# Altium integrated library WE-TI_rev15a.intlib: 113 symbols (part 1 of 2)
Pins are listed as number, name and electrical type; pins without a type are passive.

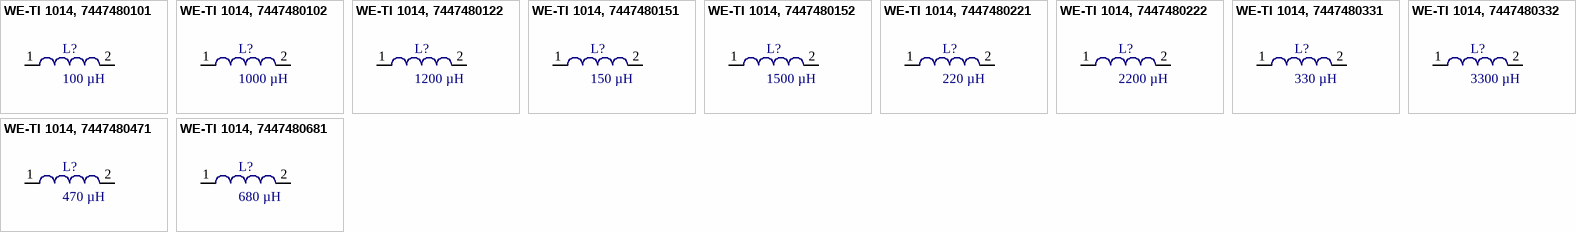
[diagram p0: symbols WE-TI 1014, 7447480101 to WE-TI 1014, 7447480681]

## WE-TI 1014, 7447480101
designator L?, comment 100 µH
Radial Leaded Wire Wound Inductor WE-TI, L=100 µH; partNo: 7447480101; Manufacturer: Würth Elektronik eiSos GmbH; Inductance: 100 µH; ComponentLink1Description: Manufacturer; ComponentLink1URL: http://www.we-online.de; Created by: Christin Otto; Created Date: November 2ß13; ComponentLink2Description: Datasheet; ComponentLink2URL: http://www.we-online.de/katalog/media/pdf/7447480101.pdf
footprint WE-TI 1014 (THT Inductor, 2-Leads, Body 10,0  mm)
pins: 1, 2

## WE-TI 1014, 7447480102
designator L?, comment 1000 µH
Radial Leaded Wire Wound Inductor WE-TI, L=1000 µH; partNo: 7447480102; Manufacturer: Würth Elektronik eiSos GmbH; Inductance: 1000 µH; ComponentLink1Description: Manufacturer; ComponentLink1URL: http://www.we-online.de; Created by: Christin Otto; Created Date: November 2ß13; ComponentLink2Description: Datasheet; ComponentLink2URL: http://www.we-online.de/katalog/media/pdf/7447480102.pdf
footprint WE-TI 1014 (THT Inductor, 2-Leads, Body 10,0  mm)
pins: 1, 2

## WE-TI 1014, 7447480122
designator L?, comment 1200 µH
Radial Leaded Wire Wound Inductor WE-TI, L=1200 µH; partNo: 7447480122; Manufacturer: Würth Elektronik eiSos GmbH; Inductance: 1200 µH; ComponentLink1Description: Manufacturer; ComponentLink1URL: http://www.we-online.de; Created by: Christin Otto; Created Date: November 2ß13; ComponentLink2Description: Datasheet; ComponentLink2URL: http://www.we-online.de/katalog/media/pdf/7447480122.pdf
footprint WE-TI 1014 (THT Inductor, 2-Leads, Body 10,0  mm)
pins: 1, 2

## WE-TI 1014, 7447480151
designator L?, comment 150 µH
Radial Leaded Wire Wound Inductor WE-TI, L=150 µH; partNo: 7447480151; Manufacturer: Würth Elektronik eiSos GmbH; Inductance: 150 µH; ComponentLink1Description: Manufacturer; ComponentLink1URL: http://www.we-online.de; Created by: Christin Otto; Created Date: November 2ß13; ComponentLink2Description: Datasheet; ComponentLink2URL: http://www.we-online.de/katalog/media/pdf/7447480151.pdf
footprint WE-TI 1014 (THT Inductor, 2-Leads, Body 10,0  mm)
pins: 1, 2

## WE-TI 1014, 7447480152
designator L?, comment 1500 µH
Radial Leaded Wire Wound Inductor WE-TI, L=1500 µH; partNo: 7447480152; Manufacturer: Würth Elektronik eiSos GmbH; Inductance: 1500 µH; ComponentLink1Description: Manufacturer; ComponentLink1URL: http://www.we-online.de; Created by: Christin Otto; Created Date: November 2ß13; ComponentLink2Description: Datasheet; ComponentLink2URL: http://www.we-online.de/katalog/media/pdf/7447480152.pdf
footprint WE-TI 1014 (THT Inductor, 2-Leads, Body 10,0  mm)
pins: 1, 2

## WE-TI 1014, 7447480221
designator L?, comment 220 µH
Radial Leaded Wire Wound Inductor WE-TI, L=220 µH; partNo: 7447480221; Manufacturer: Würth Elektronik eiSos GmbH; Inductance: 220 µH; ComponentLink1Description: Manufacturer; ComponentLink1URL: http://www.we-online.de; Created by: Christin Otto; Created Date: November 2ß13; ComponentLink2Description: Datasheet; ComponentLink2URL: http://www.we-online.de/katalog/media/pdf/7447480221.pdf
footprint WE-TI 1014 (THT Inductor, 2-Leads, Body 10,0  mm)
pins: 1, 2

## WE-TI 1014, 7447480222
designator L?, comment 2200 µH
Radial Leaded Wire Wound Inductor WE-TI, L=2200 µH; partNo: 7447480222; Manufacturer: Würth Elektronik eiSos GmbH; Inductance: 2200 µH; ComponentLink1Description: Manufacturer; ComponentLink1URL: http://www.we-online.de; Created by: Christin Otto; Created Date: November 2ß13; ComponentLink2Description: Datasheet; ComponentLink2URL: http://www.we-online.de/katalog/media/pdf/7447480222.pdf
footprint WE-TI 1014 (THT Inductor, 2-Leads, Body 10,0  mm)
pins: 1, 2

## WE-TI 1014, 7447480331
designator L?, comment 330 µH
Radial Leaded Wire Wound Inductor WE-TI, L=330 µH; partNo: 7447480331; Manufacturer: Würth Elektronik eiSos GmbH; Inductance: 330 µH; ComponentLink1Description: Manufacturer; ComponentLink1URL: http://www.we-online.de; Created by: Christin Otto; Created Date: November 2ß13; ComponentLink2Description: Datasheet; ComponentLink2URL: http://www.we-online.de/katalog/media/pdf/7447480331.pdf
footprint WE-TI 1014 (THT Inductor, 2-Leads, Body 10,0  mm)
pins: 1, 2

## WE-TI 1014, 7447480332
designator L?, comment 3300 µH
Radial Leaded Wire Wound Inductor WE-TI, L=3300 µH; partNo: 7447480332; Manufacturer: Würth Elektronik eiSos GmbH; Inductance: 3300 µH; ComponentLink1Description: Manufacturer; ComponentLink1URL: http://www.we-online.de; Created by: Christin Otto; Created Date: November 2ß13; ComponentLink2Description: Datasheet; ComponentLink2URL: http://www.we-online.de/katalog/media/pdf/7447480332.pdf
footprint WE-TI 1014 (THT Inductor, 2-Leads, Body 10,0  mm)
pins: 1, 2

## WE-TI 1014, 7447480471
designator L?, comment 470 µH
Radial Leaded Wire Wound Inductor WE-TI, L=470 µH; partNo: 7447480471; Manufacturer: Würth Elektronik eiSos GmbH; Inductance: 470 µH; ComponentLink1Description: Manufacturer; ComponentLink1URL: http://www.we-online.de; Created by: Christin Otto; Created Date: November 2ß13; ComponentLink2Description: Datasheet; ComponentLink2URL: http://www.we-online.de/katalog/media/pdf/7447480471.pdf
footprint WE-TI 1014 (THT Inductor, 2-Leads, Body 10,0  mm)
pins: 1, 2

## WE-TI 1014, 7447480681
designator L?, comment 680 µH
Radial Leaded Wire Wound Inductor WE-TI, L=680 µH; partNo: 7447480681; Manufacturer: Würth Elektronik eiSos GmbH; Inductance: 680 µH; ComponentLink1Description: Manufacturer; ComponentLink1URL: http://www.we-online.de; Created by: Christin Otto; Created Date: November 2ß13; ComponentLink2Description: Datasheet; ComponentLink2URL: http://www.we-online.de/katalog/media/pdf/7447480681.pdf
footprint WE-TI 1014 (THT Inductor, 2-Leads, Body 10,0  mm)
pins: 1, 2


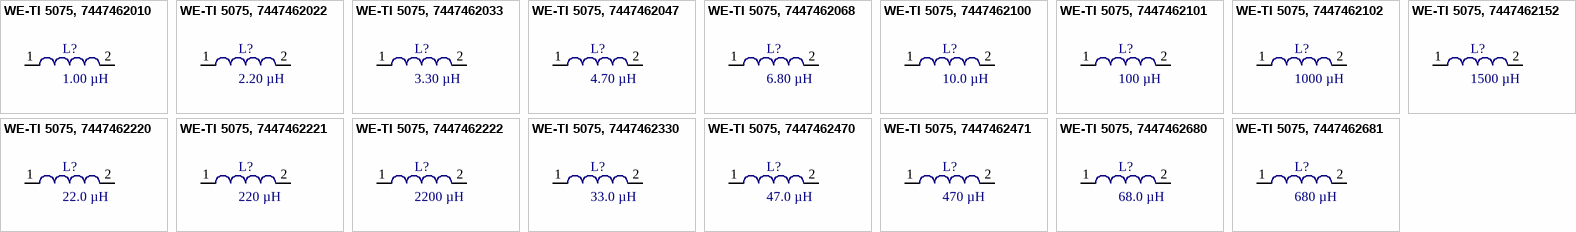
[diagram p1: symbols WE-TI 5075, 7447462010 to WE-TI 5075, 7447462681]

## WE-TI 5075, 7447462010
designator L?, comment 1.00 µH
Radial Leaded Wire Wound Inductor WE-TI, L=1.00 µH; partNo: 7447462010; Manufacturer: Würth Elektronik eiSos GmbH; Inductance: 1.00 µH; ComponentLink1Description: Manufacturer; ComponentLink1URL: http://www.we-online.de; Created by: Christin Zierenner; Created Date: March 2010; ComponentLink2Description: Datasheet; ComponentLink2URL: http://www.we-online.de/katalog/media/pdf/7447462010.pdf
footprint WE-TI 5075 (THT Inductor, 2-Leads, Body 5.3  mm)
pins: 1, 2

## WE-TI 5075, 7447462022
designator L?, comment 2.20 µH
Radial Leaded Wire Wound Inductor WE-TI, L=2.20 µH; partNo: 7447462022; Manufacturer: Würth Elektronik eiSos GmbH; Inductance: 2.20 µH; ComponentLink1Description: Manufacturer; ComponentLink1URL: http://www.we-online.de; Created by: Christin Zierenner; Created Date: March 2010; ComponentLink2Description: Datasheet; ComponentLink2URL: http://www.we-online.de/katalog/media/pdf/7447462022.pdf
footprint WE-TI 5075 (THT Inductor, 2-Leads, Body 5.3  mm)
pins: 1, 2

## WE-TI 5075, 7447462033
designator L?, comment 3.30 µH
Radial Leaded Wire Wound Inductor WE-TI, L=3.30 µH; partNo: 7447462033; Manufacturer: Würth Elektronik eiSos GmbH; Inductance: 3.30 µH; ComponentLink1Description: Manufacturer; ComponentLink1URL: http://www.we-online.de; Created by: Christin Zierenner; Created Date: March 2010; ComponentLink2Description: Datasheet; ComponentLink2URL: http://www.we-online.de/katalog/media/pdf/7447462033.pdf
footprint WE-TI 5075 (THT Inductor, 2-Leads, Body 5.3  mm)
pins: 1, 2

## WE-TI 5075, 7447462047
designator L?, comment 4.70 µH
Radial Leaded Wire Wound Inductor WE-TI, L=4.70 µH; partNo: 7447462047; Manufacturer: Würth Elektronik eiSos GmbH; Inductance: 4.70 µH; ComponentLink1Description: Manufacturer; ComponentLink1URL: http://www.we-online.de; Created by: Christin Zierenner; Created Date: March 2010; ComponentLink2Description: Datasheet; ComponentLink2URL: http://www.we-online.de/katalog/media/pdf/7447462047.pdf
footprint WE-TI 5075 (THT Inductor, 2-Leads, Body 5.3  mm)
pins: 1, 2

## WE-TI 5075, 7447462068
designator L?, comment 6.80 µH
Radial Leaded Wire Wound Inductor WE-TI, L=6.80 µH; partNo: 7447462068; Manufacturer: Würth Elektronik eiSos GmbH; Inductance: 6.80 µH; ComponentLink1Description: Manufacturer; ComponentLink1URL: http://www.we-online.de; Created by: Christin Otto; Created Date: November 2013; ComponentLink2Description: Datasheet; ComponentLink2URL: http://www.we-online.de/katalog/media/pdf/7447462068.pdf
footprint WE-TI 5075 (THT Inductor, 2-Leads, Body 5.3  mm)
pins: 1, 2

## WE-TI 5075, 7447462100
designator L?, comment 10.0 µH
Radial Leaded Wire Wound Inductor WE-TI, L=10.0 µH; partNo: 7447462100; Manufacturer: Würth Elektronik eiSos GmbH; Inductance: 10.0 µH; ComponentLink1Description: Manufacturer; ComponentLink1URL: http://www.we-online.de; Created by: Christin Zierenner; Created Date: March 2010; ComponentLink2Description: Datasheet; ComponentLink2URL: http://www.we-online.de/katalog/media/pdf/7447462100.pdf
footprint WE-TI 5075 (THT Inductor, 2-Leads, Body 5.3  mm)
pins: 1, 2

## WE-TI 5075, 7447462101
designator L?, comment 100 µH
Radial Leaded Wire Wound Inductor WE-TI, L=100 µH; partNo: 7447462101; Manufacturer: Würth Elektronik eiSos GmbH; Inductance: 100 µH; ComponentLink1Description: Manufacturer; ComponentLink1URL: http://www.we-online.de; Created by: Christin Zierenner; Created Date: March 2010; ComponentLink2Description: Datasheet; ComponentLink2URL: http://www.we-online.de/katalog/media/pdf/7447462101.pdf
footprint WE-TI 5075 (THT Inductor, 2-Leads, Body 5.3  mm)
pins: 1, 2

## WE-TI 5075, 7447462102
designator L?, comment 1000 µH
Radial Leaded Wire Wound Inductor WE-TI, L=1000 µH; partNo: 7447462102; Manufacturer: Würth Elektronik eiSos GmbH; Inductance: 1000 µH; ComponentLink1Description: Manufacturer; ComponentLink1URL: http://www.we-online.de; Created by: Christin Zierenner; Created Date: March 2010; ComponentLink2Description: Datasheet; ComponentLink2URL: http://www.we-online.de/katalog/media/pdf/7447462102.pdf
footprint WE-TI 5075 (THT Inductor, 2-Leads, Body 5.3  mm)
pins: 1, 2

## WE-TI 5075, 7447462152
designator L?, comment 1500 µH
Radial Leaded Wire Wound Inductor WE-TI, L=1500 µH; partNo: 7447462152; Manufacturer: Würth Elektronik eiSos GmbH; Inductance: 1500 µH; ComponentLink1Description: Manufacturer; ComponentLink1URL: http://www.we-online.de; Created by: Christin Zierenner; Created Date: March 2010; ComponentLink2Description: Datasheet; ComponentLink2URL: http://www.we-online.de/katalog/media/pdf/7447462152.pdf
footprint WE-TI 5075 (THT Inductor, 2-Leads, Body 5.3  mm)
pins: 1, 2

## WE-TI 5075, 7447462220
designator L?, comment 22.0 µH
Radial Leaded Wire Wound Inductor WE-TI, L=22.0 µH; partNo: 7447462220; Manufacturer: Würth Elektronik eiSos GmbH; Inductance: 22.0 µH; ComponentLink1Description: Manufacturer; ComponentLink1URL: http://www.we-online.de; Created by: Christin Zierenner; Created Date: March 2010; ComponentLink2Description: Datasheet; ComponentLink2URL: http://www.we-online.de/katalog/media/pdf/7447462220.pdf
footprint WE-TI 5075 (THT Inductor, 2-Leads, Body 5.3  mm)
pins: 1, 2

## WE-TI 5075, 7447462221
designator L?, comment 220 µH
Radial Leaded Wire Wound Inductor WE-TI, L=220 µH; partNo: 7447462221; Manufacturer: Würth Elektronik eiSos GmbH; Inductance: 220 µH; ComponentLink1Description: Manufacturer; ComponentLink1URL: http://www.we-online.de; Created by: Christin Zierenner; Created Date: March 2010; ComponentLink2Description: Datasheet; ComponentLink2URL: http://www.we-online.de/katalog/media/pdf/7447462221.pdf
footprint WE-TI 5075 (THT Inductor, 2-Leads, Body 5.3  mm)
pins: 1, 2

## WE-TI 5075, 7447462222
designator L?, comment 2200 µH
Radial Leaded Wire Wound Inductor WE-TI, L=2200 µH; partNo: 7447462222; Manufacturer: Würth Elektronik eiSos GmbH; Inductance: 2200 µH; ComponentLink1Description: Manufacturer; ComponentLink1URL: http://www.we-online.de; Created by: Christin Otto; Created Date: November 2013; ComponentLink2Description: Datasheet; ComponentLink2URL: http://www.we-online.de/katalog/media/pdf/7447462222.pdf
footprint WE-TI 5075 (THT Inductor, 2-Leads, Body 5.3  mm)
pins: 1, 2

## WE-TI 5075, 7447462330
designator L?, comment 33.0 µH
Radial Leaded Wire Wound Inductor WE-TI, L=33.0 µH; partNo: 7447462330; Manufacturer: Würth Elektronik eiSos GmbH; Inductance: 33.0 µH; ComponentLink1Description: Manufacturer; ComponentLink1URL: http://www.we-online.de; Created by: Christin Zierenner; Created Date: March 2010; ComponentLink2Description: Datasheet; ComponentLink2URL: http://www.we-online.de/katalog/media/pdf/7447462330.pdf
footprint WE-TI 5075 (THT Inductor, 2-Leads, Body 5.3  mm)
pins: 1, 2

## WE-TI 5075, 7447462470
designator L?, comment 47.0 µH
Radial Leaded Wire Wound Inductor WE-TI, L=47.0 µH; partNo: 7447462470; Manufacturer: Würth Elektronik eiSos GmbH; Inductance: 47.0 µH; ComponentLink1Description: Manufacturer; ComponentLink1URL: http://www.we-online.de; Created by: Christin Zierenner; Created Date: March 2010; ComponentLink2Description: Datasheet; ComponentLink2URL: http://www.we-online.de/katalog/media/pdf/7447462470.pdf
footprint WE-TI 5075 (THT Inductor, 2-Leads, Body 5.3  mm)
pins: 1, 2

## WE-TI 5075, 7447462471
designator L?, comment 470 µH
Radial Leaded Wire Wound Inductor WE-TI, L=470 µH; partNo: 7447462471; Manufacturer: Würth Elektronik eiSos GmbH; Inductance: 470 µH; ComponentLink1Description: Manufacturer; ComponentLink1URL: http://www.we-online.de; Created by: Christin Zierenner; Created Date: March 2010; ComponentLink2Description: Datasheet; ComponentLink2URL: http://www.we-online.de/katalog/media/pdf/7447462471.pdf
footprint WE-TI 5075 (THT Inductor, 2-Leads, Body 5.3  mm)
pins: 1, 2

## WE-TI 5075, 7447462680
designator L?, comment 68.0 µH
Radial Leaded Wire Wound Inductor WE-TI, L=68.0 µH; partNo: 7447462680; Manufacturer: Würth Elektronik eiSos GmbH; Inductance: 68.0 µH; ComponentLink1Description: Manufacturer; ComponentLink1URL: http://www.we-online.de; Created by: Christin Otto; Created Date: November 2013; ComponentLink2Description: Datasheet; ComponentLink2URL: http://www.we-online.de/katalog/media/pdf/7447462680.pdf
footprint WE-TI 5075 (THT Inductor, 2-Leads, Body 5.3  mm)
pins: 1, 2

## WE-TI 5075, 7447462681
designator L?, comment 680 µH
Radial Leaded Wire Wound Inductor WE-TI, L=680 µH; partNo: 7447462681; Manufacturer: Würth Elektronik eiSos GmbH; Inductance: 680 µH; ComponentLink1Description: Manufacturer; ComponentLink1URL: http://www.we-online.de; Created by: Christin Otto; Created Date: November 2013; ComponentLink2Description: Datasheet; ComponentLink2URL: http://www.we-online.de/katalog/media/pdf/7447462681.pdf
footprint WE-TI 5075 (THT Inductor, 2-Leads, Body 5.3  mm)
pins: 1, 2


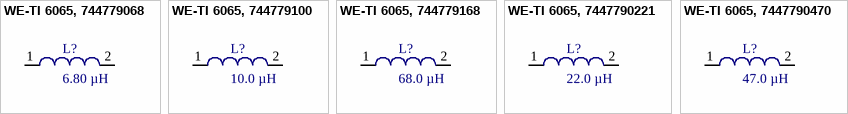
[diagram p2: symbols WE-TI 6065, 744779068 to WE-TI 6065, 7447790470]

## WE-TI 6065, 744779068
designator L?, comment 6.80 µH
Radial Leaded Wire Wound Inductor WE-TI, L=6.80 µH; partNo: 744779068; Manufacturer: Würth Elektronik eiSos GmbH; Inductance: 6.80 µH; ComponentLink1Description: Manufacturer; ComponentLink1URL: http://www.we-online.de; Created by: Christin Zierenner; Created Date: July 2009; ComponentLink2Description: Datasheet; ComponentLink2URL: http://www.we-online.de/katalog/media/pdf/744779068.pdf
footprint WE-TI 6065 (THT Inductor, 2-Leads, Body 6,0  mm)
pins: 1, 2

## WE-TI 6065, 744779100
designator L?, comment 10.0 µH
Radial Leaded Wire Wound Inductor WE-TI, L=10.0 µH; partNo: 744779100; Manufacturer: Würth Elektronik eiSos GmbH; Inductance: 10.0 µH; ComponentLink1Description: Manufacturer; ComponentLink1URL: http://www.we-online.de; Created by: Christin Zierenner; Created Date: July 2009; ComponentLink2Description: Datasheet; ComponentLink2URL: http://www.we-online.de/katalog/media/pdf/744779100.pdf
footprint WE-TI 6065 (THT Inductor, 2-Leads, Body 6,0  mm)
pins: 1, 2

## WE-TI 6065, 744779168
designator L?, comment 68.0 µH
Radial Leaded Wire Wound Inductor WE-TI, L=68.0 µH; partNo: 744779168; Manufacturer: Würth Elektronik eiSos GmbH; Inductance: 68.0 µH; ComponentLink1Description: Manufacturer; ComponentLink1URL: http://www.we-online.de; Created by: Christin Zierenner; Created Date: July 2009; ComponentLink2Description: Datasheet; ComponentLink2URL: http://www.we-online.de/katalog/media/pdf/744779168.pdf
footprint WE-TI 6065 (THT Inductor, 2-Leads, Body 6,0  mm)
pins: 1, 2

## WE-TI 6065, 7447790221
designator L?, comment 22.0 µH
Radial Leaded Wire Wound Inductor WE-TI, L=220 µH; partNo: 7447790221; Manufacturer: Würth Elektronik eiSos GmbH; Inductance: 22.0 µH; ComponentLink1Description: Manufacturer; ComponentLink1URL: http://www.we-online.de; Created by: Christin Otto; Created Date: November 2013; ComponentLink2Description: Datasheet; ComponentLink2URL: http://www.we-online.de/katalog/media/pdf/7447790221.pdf
footprint WE-TI 6065 (THT Inductor, 2-Leads, Body 6,0  mm)
pins: 1, 2

## WE-TI 6065, 7447790470
designator L?, comment 47.0 µH
Radial Leaded Wire Wound Inductor WE-TI, L=47.0 µH; partNo: 7447790470; Manufacturer: Würth Elektronik eiSos GmbH; Inductance: 47.0 µH; ComponentLink1Description: Manufacturer; ComponentLink1URL: http://www.we-online.de; Created by: Christin Otto; Created Date: November 2013; ComponentLink2Description: Datasheet; ComponentLink2URL: http://www.we-online.de/katalog/media/pdf/7447790470.pdf
footprint WE-TI 6065 (THT Inductor, 2-Leads, Body 6,0  mm)
pins: 1, 2


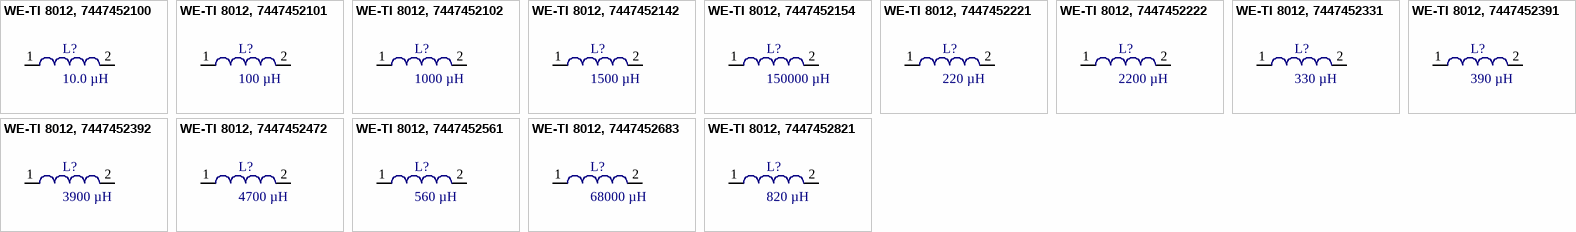
[diagram p3: symbols WE-TI 8012, 7447452100 to WE-TI 8012, 7447452821]

## WE-TI 8012, 7447452100
designator L?, comment 10.0 µH
Radial Leaded Wire Wound Inductor WE-TI, L=10.0 µH; partNo: 7447452100; Manufacturer: Würth Elektronik eiSos GmbH; Inductance: 10.0 µH; ComponentLink1Description: Manufacturer; ComponentLink1URL: http://www.we-online.de; Created by: Christin Otto; Created Date: November 2ß13; ComponentLink2Description: Datasheet; ComponentLink2URL: http://www.we-online.de/katalog/media/pdf/7447452100.pdf
footprint WE-TI 8012 (THT Inductor, 2-Leads, Body 8,0  mm)
pins: 1, 2

## WE-TI 8012, 7447452101
designator L?, comment 100 µH
Radial Leaded Wire Wound Inductor WE-TI, L=100 µH; partNo: 7447452101; Manufacturer: Würth Elektronik eiSos GmbH; Inductance: 100 µH; ComponentLink1Description: Manufacturer; ComponentLink1URL: http://www.we-online.de; Created by: Christin Otto; Created Date: November 2ß13; ComponentLink2Description: Datasheet; ComponentLink2URL: http://www.we-online.de/katalog/media/pdf/7447452101.pdf
footprint WE-TI 8012 (THT Inductor, 2-Leads, Body 8,0  mm)
pins: 1, 2

## WE-TI 8012, 7447452102
designator L?, comment 1000 µH
Radial Leaded Wire Wound Inductor WE-TI, L=1000 µH; partNo: 7447452102; Manufacturer: Würth Elektronik eiSos GmbH; Inductance: 1000 µH; ComponentLink1Description: Manufacturer; ComponentLink1URL: http://www.we-online.de; Created by: Christin Otto; Created Date: November 2ß13; ComponentLink2Description: Datasheet; ComponentLink2URL: http://www.we-online.de/katalog/media/pdf/7447452102.pdf
footprint WE-TI 8012 (THT Inductor, 2-Leads, Body 8,0  mm)
pins: 1, 2

## WE-TI 8012, 7447452142
designator L?, comment 1500 µH
Radial Leaded Wire Wound Inductor WE-TI, L=1500 µH; partNo: 7447452152; Manufacturer: Würth Elektronik eiSos GmbH; Inductance: 1500 µH; ComponentLink1Description: Manufacturer; ComponentLink1URL: http://www.we-online.de; Created by: Christin Otto; Created Date: November 2ß13; ComponentLink2Description: Datasheet; ComponentLink2URL: http://www.we-online.de/katalog/media/pdf/7447452152.pdf
footprint WE-TI 8012 (THT Inductor, 2-Leads, Body 8,0  mm)
pins: 1, 2

## WE-TI 8012, 7447452154
designator L?, comment 150000 µH
Radial Leaded Wire Wound Inductor WE-TI, L=150000 µH; partNo: 7447452154; Manufacturer: Würth Elektronik eiSos GmbH; Inductance: 150000 µH; ComponentLink1Description: Manufacturer; ComponentLink1URL: http://www.we-online.de; Created by: Christin Otto; Created Date: November 2ß13; ComponentLink2Description: Datasheet; ComponentLink2URL: http://www.we-online.de/katalog/media/pdf/7447452154.pdf
footprint WE-TI 8012 (THT Inductor, 2-Leads, Body 8,0  mm)
pins: 1, 2

## WE-TI 8012, 7447452221
designator L?, comment 220 µH
Radial Leaded Wire Wound Inductor WE-TI, L=220 µH; partNo: 7447452221; Manufacturer: Würth Elektronik eiSos GmbH; Inductance: 220 µH; ComponentLink1Description: Manufacturer; ComponentLink1URL: http://www.we-online.de; Created by: Christin Otto; Created Date: November 2ß13; ComponentLink2Description: Datasheet; ComponentLink2URL: http://www.we-online.de/katalog/media/pdf/7447452221.pdf
footprint WE-TI 8012 (THT Inductor, 2-Leads, Body 8,0  mm)
pins: 1, 2

## WE-TI 8012, 7447452222
designator L?, comment 2200 µH
Radial Leaded Wire Wound Inductor WE-TI, L=2200 µH; partNo: 7447452222; Manufacturer: Würth Elektronik eiSos GmbH; Inductance: 2200 µH; ComponentLink1Description: Manufacturer; ComponentLink1URL: http://www.we-online.de; Created by: Christin Otto; Created Date: November 2ß13; ComponentLink2Description: Datasheet; ComponentLink2URL: http://www.we-online.de/katalog/media/pdf/7447452222.pdf
footprint WE-TI 8012 (THT Inductor, 2-Leads, Body 8,0  mm)
pins: 1, 2

## WE-TI 8012, 7447452331
designator L?, comment 330 µH
Radial Leaded Wire Wound Inductor WE-TI, L=330 µH; partNo: 7447452331; Manufacturer: Würth Elektronik eiSos GmbH; Inductance: 330 µH; ComponentLink1Description: Manufacturer; ComponentLink1URL: http://www.we-online.de; Created by: Christin Otto; Created Date: November 2ß13; ComponentLink2Description: Datasheet; ComponentLink2URL: http://www.we-online.de/katalog/media/pdf/7447452331.pdf
footprint WE-TI 8012 (THT Inductor, 2-Leads, Body 8,0  mm)
pins: 1, 2

## WE-TI 8012, 7447452391
designator L?, comment 390 µH
Radial Leaded Wire Wound Inductor WE-TI, L=390 µH; partNo: 7447452391; Manufacturer: Würth Elektronik eiSos GmbH; Inductance: 390 µH; ComponentLink1Description: Manufacturer; ComponentLink1URL: http://www.we-online.de; Created by: Christin Otto; Created Date: November 2ß13; ComponentLink2Description: Datasheet; ComponentLink2URL: http://www.we-online.de/katalog/media/pdf/7447452391.pdf
footprint WE-TI 8012 (THT Inductor, 2-Leads, Body 8,0  mm)
pins: 1, 2

## WE-TI 8012, 7447452392
designator L?, comment 3900 µH
Radial Leaded Wire Wound Inductor WE-TI, L=3900 µH; partNo: 7447452392; Manufacturer: Würth Elektronik eiSos GmbH; Inductance: 3900 µH; ComponentLink1Description: Manufacturer; ComponentLink1URL: http://www.we-online.de; Created by: Christin Otto; Created Date: November 2ß13; ComponentLink2Description: Datasheet; ComponentLink2URL: http://www.we-online.de/katalog/media/pdf/7447452392.pdf
footprint WE-TI 8012 (THT Inductor, 2-Leads, Body 8,0  mm)
pins: 1, 2

## WE-TI 8012, 7447452472
designator L?, comment 4700 µH
Radial Leaded Wire Wound Inductor WE-TI, L=4700 µH; partNo: 7447452472; Manufacturer: Würth Elektronik eiSos GmbH; Inductance: 4700 µH; ComponentLink1Description: Manufacturer; ComponentLink1URL: http://www.we-online.de; Created by: Christin Otto; Created Date: November 2ß13; ComponentLink2Description: Datasheet; ComponentLink2URL: http://www.we-online.de/katalog/media/pdf/7447452472.pdf
footprint WE-TI 8012 (THT Inductor, 2-Leads, Body 8,0  mm)
pins: 1, 2

## WE-TI 8012, 7447452561
designator L?, comment 560 µH
Radial Leaded Wire Wound Inductor WE-TI, L=560 µH; partNo: 7447452561; Manufacturer: Würth Elektronik eiSos GmbH; Inductance: 560 µH; ComponentLink1Description: Manufacturer; ComponentLink1URL: http://www.we-online.de; Created by: Christin Otto; Created Date: November 2ß13; ComponentLink2Description: Datasheet; ComponentLink2URL: http://www.we-online.de/katalog/media/pdf/7447452561.pdf
footprint WE-TI 8012 (THT Inductor, 2-Leads, Body 8,0  mm)
pins: 1, 2

## WE-TI 8012, 7447452683
designator L?, comment 68000 µH
Radial Leaded Wire Wound Inductor WE-TI, L=68000 µH; partNo: 7447452683; Manufacturer: Würth Elektronik eiSos GmbH; Inductance: 68000 µH; ComponentLink1Description: Manufacturer; ComponentLink1URL: http://www.we-online.de; Created by: Christin Otto; Created Date: November 2ß13; ComponentLink2Description: Datasheet; ComponentLink2URL: http://www.we-online.de/katalog/media/pdf/7447452683.pdf
footprint WE-TI 8012 (THT Inductor, 2-Leads, Body 8,0  mm)
pins: 1, 2

## WE-TI 8012, 7447452821
designator L?, comment 820 µH
Radial Leaded Wire Wound Inductor WE-TI, L=820 µH; partNo: 7447452821; Manufacturer: Würth Elektronik eiSos GmbH; Inductance: 820 µH; ComponentLink1Description: Manufacturer; ComponentLink1URL: http://www.we-online.de; Created by: Christin Otto; Created Date: November 2ß13; ComponentLink2Description: Datasheet; ComponentLink2URL: http://www.we-online.de/katalog/media/pdf/7447452821.pdf
footprint WE-TI 8012 (THT Inductor, 2-Leads, Body 8,0  mm)
pins: 1, 2


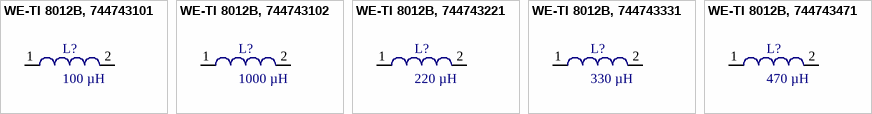
[diagram p4: symbols WE-TI 8012B, 744743101 to WE-TI 8012B, 744743471]

## WE-TI 8012B, 744743101
designator L?, comment 100 µH
Radial Leaded Wire Wound Inductor WE-TI, L=100 µH; partNo: 744743101; Manufacturer: Würth Elektronik eiSos GmbH; Inductance: 100 µH; ComponentLink1Description: Manufacturer; ComponentLink1URL: http://www.we-online.de; Created by: Christin Zierenner; Created Date: July 2009; ComponentLink2Description: Datasheet; ComponentLink2URL: http://www.we-online.de/katalog/media/pdf/744743101.pdf
footprint WE-TI 8012B (THT Inductor, 2-Leads, Body 8,0  mm)
pins: 1, 2

## WE-TI 8012B, 744743102
designator L?, comment 1000 µH
Radial Leaded Wire Wound Inductor WE-TI, L=1000 µH; partNo: 744743102; Manufacturer: Würth Elektronik eiSos GmbH; Inductance: 1000 µH; ComponentLink1Description: Manufacturer; ComponentLink1URL: http://www.we-online.de; Created by: Christin Zierenner; Created Date: July 2009; ComponentLink2Description: Datasheet; ComponentLink2URL: http://www.we-online.de/katalog/media/pdf/744743102.pdf
footprint WE-TI 8012B (THT Inductor, 2-Leads, Body 8,0  mm)
pins: 1, 2

## WE-TI 8012B, 744743221
designator L?, comment 220 µH
Radial Leaded Wire Wound Inductor WE-TI, L=220 µH; partNo: 744743221; Manufacturer: Würth Elektronik eiSos GmbH; Inductance: 220 µH; ComponentLink1Description: Manufacturer; ComponentLink1URL: http://www.we-online.de; Created by: Christin Zierenner; Created Date: July 2009; ComponentLink2Description: Datasheet; ComponentLink2URL: http://www.we-online.de/katalog/media/pdf/744743221.pdf
footprint WE-TI 8012B (THT Inductor, 2-Leads, Body 8,0  mm)
pins: 1, 2

## WE-TI 8012B, 744743331
designator L?, comment 330 µH
Radial Leaded Wire Wound Inductor WE-TI, L=330 µH; partNo: 744743331; Manufacturer: Würth Elektronik eiSos GmbH; Inductance: 330 µH; ComponentLink1Description: Manufacturer; ComponentLink1URL: http://www.we-online.de; Created by: Christin Zierenner; Created Date: July 2009; ComponentLink2Description: Datasheet; ComponentLink2URL: http://www.we-online.de/katalog/media/pdf/744743331.pdf
footprint WE-TI 8012B (THT Inductor, 2-Leads, Body 8,0  mm)
pins: 1, 2

## WE-TI 8012B, 744743471
designator L?, comment 470 µH
Radial Leaded Wire Wound Inductor WE-TI, L=470 µH; partNo: 744743471; Manufacturer: Würth Elektronik eiSos GmbH; Inductance: 470 µH; ComponentLink1Description: Manufacturer; ComponentLink1URL: http://www.we-online.de; Created by: Christin Zierenner; Created Date: July 2009; ComponentLink2Description: Datasheet; ComponentLink2URL: http://www.we-online.de/katalog/media/pdf/744743471.pdf
footprint WE-TI 8012B (THT Inductor, 2-Leads, Body 8,0  mm)
pins: 1, 2


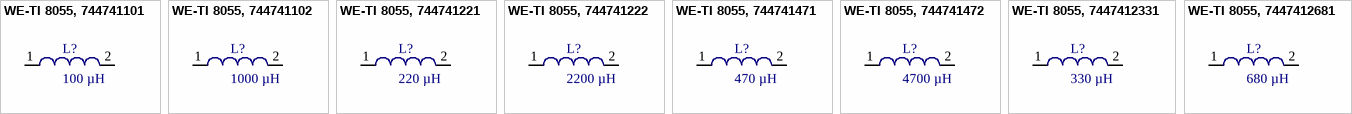
[diagram p5: symbols WE-TI 8055, 744741101 to WE-TI 8055, 7447412681]

## WE-TI 8055, 744741101
designator L?, comment 100 µH
Radial Leaded Wire Wound Inductor WE-TI, L=100 µH; partNo: 744741101; Manufacturer: Würth Elektronik eiSos GmbH; Inductance: 100 µH; ComponentLink1Description: Manufacturer; ComponentLink1URL: http://www.we-online.de; Created by: Christin Zierenner; Created Date: July 2009; ComponentLink2Description: Datasheet; ComponentLink2URL: http://www.we-online.de/katalog/media/pdf/744741101.pdf
footprint WE-TI 8055 (THT Inductor, 2-Leads, Body 8,0  mm)
pins: 1, 2

## WE-TI 8055, 744741102
designator L?, comment 1000 µH
Radial Leaded Wire Wound Inductor WE-TI, L=1000 µH; partNo: 744741102; Manufacturer: Würth Elektronik eiSos GmbH; Inductance: 1000 µH; ComponentLink1Description: Manufacturer; ComponentLink1URL: http://www.we-online.de; Created by: Christin Zierenner; Created Date: July 2009; ComponentLink2Description: Datasheet; ComponentLink2URL: http://www.we-online.de/katalog/media/pdf/744741102.pdf
footprint WE-TI 8055 (THT Inductor, 2-Leads, Body 8,0  mm)
pins: 1, 2

## WE-TI 8055, 744741221
designator L?, comment 220 µH
Radial Leaded Wire Wound Inductor WE-TI, L=220 µH; partNo: 744741221; Manufacturer: Würth Elektronik eiSos GmbH; Inductance: 220 µH; ComponentLink1Description: Manufacturer; ComponentLink1URL: http://www.we-online.de; Created by: Christin Zierenner; Created Date: July 2009; ComponentLink2Description: Datasheet; ComponentLink2URL: http://www.we-online.de/katalog/media/pdf/744741221.pdf
footprint WE-TI 8055 (THT Inductor, 2-Leads, Body 8,0  mm)
pins: 1, 2

## WE-TI 8055, 744741222
designator L?, comment 2200 µH
Radial Leaded Wire Wound Inductor WE-TI, L=2200 µH; partNo: 744741222; Manufacturer: Würth Elektronik eiSos GmbH; Inductance: 2200 µH; ComponentLink1Description: Manufacturer; ComponentLink1URL: http://www.we-online.de; Created by: Christin Zierenner; Created Date: July 2009; ComponentLink2Description: Datasheet; ComponentLink2URL: http://www.we-online.de/katalog/media/pdf/744741222.pdf
footprint WE-TI 8055 (THT Inductor, 2-Leads, Body 8,0  mm)
pins: 1, 2

## WE-TI 8055, 744741471
designator L?, comment 470 µH
Radial Leaded Wire Wound Inductor WE-TI, L=470 µH; partNo: 744741471; Manufacturer: Würth Elektronik eiSos GmbH; Inductance: 470 µH; ComponentLink1Description: Manufacturer; ComponentLink1URL: http://www.we-online.de; Created by: Christin Zierenner; Created Date: July 2009; ComponentLink2Description: Datasheet; ComponentLink2URL: http://www.we-online.de/katalog/media/pdf/744741471.pdf
footprint WE-TI 8055 (THT Inductor, 2-Leads, Body 8,0  mm)
pins: 1, 2

## WE-TI 8055, 744741472
designator L?, comment 4700 µH
Radial Leaded Wire Wound Inductor WE-TI, L=4700 µH; partNo: 744741472; Manufacturer: Würth Elektronik eiSos GmbH; Inductance: 4700 µH; ComponentLink1Description: Manufacturer; ComponentLink1URL: http://www.we-online.de; Created by: Christin Otto; Created Date: November 2013; ComponentLink2Description: Datasheet; ComponentLink2URL: http://www.we-online.de/katalog/media/pdf/744741472.pdf
footprint WE-TI 8055 (THT Inductor, 2-Leads, Body 8,0  mm)
pins: 1, 2

## WE-TI 8055, 7447412331
designator L?, comment 330 µH
Radial Leaded Wire Wound Inductor WE-TI, L=330 µH; partNo: 7447412331; Manufacturer: Würth Elektronik eiSos GmbH; Inductance: 330 µH; ComponentLink1Description: Manufacturer; ComponentLink1URL: http://www.we-online.de; Created by: Christin Otto; Created Date: November 2013; ComponentLink2Description: Datasheet; ComponentLink2URL: http://www.we-online.de/katalog/media/pdf/7447412331.pdf
footprint WE-TI 8055 (THT Inductor, 2-Leads, Body 8,0  mm)
pins: 1, 2

## WE-TI 8055, 7447412681
designator L?, comment 680 µH
Radial Leaded Wire Wound Inductor WE-TI, L=680 µH; partNo: 7447412681; Manufacturer: Würth Elektronik eiSos GmbH; Inductance: 680 µH; ComponentLink1Description: Manufacturer; ComponentLink1URL: http://www.we-online.de; Created by: Christin Zierenner; Created Date: July 2009; ComponentLink2Description: Datasheet; ComponentLink2URL: http://www.we-online.de/katalog/media/pdf/7447412681.pdf
footprint WE-TI 8055 (THT Inductor, 2-Leads, Body 8,0  mm)
pins: 1, 2


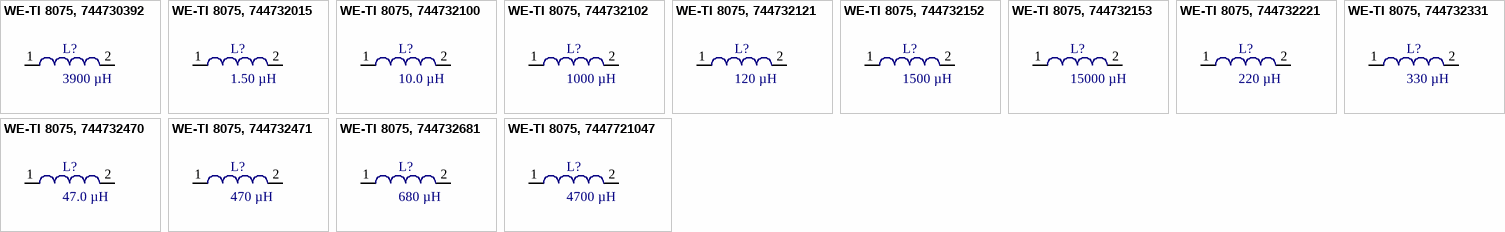
[diagram p6: symbols WE-TI 8075, 744730392 to WE-TI 8075, 7447721047]

## WE-TI 8075, 744730392
designator L?, comment 3900 µH
Radial Leaded Wire Wound Inductor WE-TI, L=3900 µH; partNo: 744730392; Manufacturer: Würth Elektronik eiSos GmbH; Inductance: 3900 µH; ComponentLink1Description: Manufacturer; ComponentLink1URL: http://www.we-online.de; Created by: Christin Otto; Created Date: November 2013; ComponentLink2Description: Datasheet; ComponentLink2URL: http://www.we-online.de/katalog/media/pdf/744730392.pdf
footprint WE-TI 8075 (THT Inductor, 2-Leads, Body 7,8  mm)
pins: 1, 2

## WE-TI 8075, 744732015
designator L?, comment 1.50 µH
Radial Leaded Wire Wound Inductor WE-TI, L=1.50 µH; partNo: 744732015; Manufacturer: Würth Elektronik eiSos GmbH; Inductance: 1.50 µH; ComponentLink1Description: Manufacturer; ComponentLink1URL: http://www.we-online.de; Created by: Christin Zierenner; Created Date: July 2009; ComponentLink2Description: Datasheet; ComponentLink2URL: http://www.we-online.de/katalog/media/pdf/744732015.pdf
footprint WE-TI 8075 Shrink Tube (THT Inductor, 2-Leads, Body 7,8  mm)
pins: 1, 2

## WE-TI 8075, 744732100
designator L?, comment 10.0 µH
Radial Leaded Wire Wound Inductor WE-TI, L=10.0 µH; partNo: 744732100; Manufacturer: Würth Elektronik eiSos GmbH; Inductance: 10.0 µH; ComponentLink1Description: Manufacturer; ComponentLink1URL: http://www.we-online.de; Created by: Christin Zierenner; Created Date: March 2010; ComponentLink2Description: Datasheet; ComponentLink2URL: http://www.we-online.de/katalog/media/pdf/744732100.pdf
footprint WE-TI 8075 Shrink Tube (THT Inductor, 2-Leads, Body 7,8  mm)
pins: 1, 2

## WE-TI 8075, 744732102
designator L?, comment 1000 µH
Radial Leaded Wire Wound Inductor WE-TI, L=1000 µH; partNo: 744732102; Manufacturer: Würth Elektronik eiSos GmbH; Inductance: 1000 µH; ComponentLink1Description: Manufacturer; ComponentLink1URL: http://www.we-online.de; Created by: Christin Zierenner; Created Date: March 2010; ComponentLink2Description: Datasheet; ComponentLink2URL: http://www.we-online.de/katalog/media/pdf/744732102.pdf
footprint WE-TI 8075 Shrink Tube (THT Inductor, 2-Leads, Body 7,8  mm)
pins: 1, 2

## WE-TI 8075, 744732121
designator L?, comment 120 µH
Radial Leaded Wire Wound Inductor WE-TI, L=120 µH; partNo: 744732121; Manufacturer: Würth Elektronik eiSos GmbH; Inductance: 120 µH; ComponentLink1Description: Manufacturer; ComponentLink1URL: http://www.we-online.de; Created by: Christin Zierenner; Created Date: March 2010; ComponentLink2Description: Datasheet; ComponentLink2URL: http://www.we-online.de/katalog/media/pdf/744732121.pdf
footprint WE-TI 8075 Shrink Tube (THT Inductor, 2-Leads, Body 7,8  mm)
pins: 1, 2

## WE-TI 8075, 744732152
designator L?, comment 1500 µH
Radial Leaded Wire Wound Inductor WE-TI, L=1500 µH; partNo: 744732152; Manufacturer: Würth Elektronik eiSos GmbH; Inductance: 1500 µH; ComponentLink1Description: Manufacturer; ComponentLink1URL: http://www.we-online.de; Created by: Christin Otto; Created Date: November 2013; ComponentLink2Description: Datasheet; ComponentLink2URL: http://www.we-online.de/katalog/media/pdf/744732152.pdf
footprint WE-TI 8075 Shrink Tube (THT Inductor, 2-Leads, Body 7,8  mm)
pins: 1, 2

## WE-TI 8075, 744732153
designator L?, comment 15000 µH
Radial Leaded Wire Wound Inductor WE-TI, L=15000 µH; partNo: 744732153; Manufacturer: Würth Elektronik eiSos GmbH; Inductance: 15000 µH; ComponentLink1Description: Manufacturer; ComponentLink1URL: http://www.we-online.de; Created by: Christin Otto; Created Date: November 2013; ComponentLink2Description: Datasheet; ComponentLink2URL: http://www.we-online.de/katalog/media/pdf/744732153.pdf
footprint WE-TI 8075 Shrink Tube (THT Inductor, 2-Leads, Body 7,8  mm)
pins: 1, 2

## WE-TI 8075, 744732221
designator L?, comment 220 µH
Radial Leaded Wire Wound Inductor WE-TI, L=220 µH; partNo: 744732221; Manufacturer: Würth Elektronik eiSos GmbH; Inductance: 220 µH; ComponentLink1Description: Manufacturer; ComponentLink1URL: http://www.we-online.de; Created by: Christin Zierenner; Created Date: March 2010; ComponentLink2Description: Datasheet; ComponentLink2URL: http://www.we-online.de/katalog/media/pdf/744732221.pdf
footprint WE-TI 8075 Shrink Tube (THT Inductor, 2-Leads, Body 7,8  mm)
pins: 1, 2

## WE-TI 8075, 744732331
designator L?, comment 330 µH
Radial Leaded Wire Wound Inductor WE-TI, L=330 µH; partNo: 744732331; Manufacturer: Würth Elektronik eiSos GmbH; Inductance: 330 µH; ComponentLink1Description: Manufacturer; ComponentLink1URL: http://www.we-online.de; Created by: Christin Zierenner; Created Date: March 2010; ComponentLink2Description: Datasheet; ComponentLink2URL: http://www.we-online.de/katalog/media/pdf/744732331.pdf
footprint WE-TI 8075 Shrink Tube (THT Inductor, 2-Leads, Body 7,8  mm)
pins: 1, 2

## WE-TI 8075, 744732470
designator L?, comment 47.0 µH
Radial Leaded Wire Wound Inductor WE-TI, L=47.0 µH; partNo: 744732470; Manufacturer: Würth Elektronik eiSos GmbH; Inductance: 47.0 µH; ComponentLink1Description: Manufacturer; ComponentLink1URL: http://www.we-online.de; Created by: Christin Zierenner; Created Date: March 2010; ComponentLink2Description: Datasheet; ComponentLink2URL: http://www.we-online.de/katalog/media/pdf/744732470.pdf
footprint WE-TI 8075 Shrink Tube (THT Inductor, 2-Leads, Body 7,8  mm)
pins: 1, 2

## WE-TI 8075, 744732471
designator L?, comment 470 µH
Radial Leaded Wire Wound Inductor WE-TI, L=470 µH; partNo: 744732471; Manufacturer: Würth Elektronik eiSos GmbH; Inductance: 470 µH; ComponentLink1Description: Manufacturer; ComponentLink1URL: http://www.we-online.de; Created by: Christin Zierenner; Created Date: March 2010; ComponentLink2Description: Datasheet; ComponentLink2URL: http://www.we-online.de/katalog/media/pdf/744732471.pdf
footprint WE-TI 8075 Shrink Tube (THT Inductor, 2-Leads, Body 7,8  mm)
pins: 1, 2

## WE-TI 8075, 744732681
designator L?, comment 680 µH
Radial Leaded Wire Wound Inductor WE-TI, L=680 µH; partNo: 744732681; Manufacturer: Würth Elektronik eiSos GmbH; Inductance: 680 µH; ComponentLink1Description: Manufacturer; ComponentLink1URL: http://www.we-online.de; Created by: Christin Zierenner; Created Date: March 2010; ComponentLink2Description: Datasheet; ComponentLink2URL: http://www.we-online.de/katalog/media/pdf/744732681.pdf
footprint WE-TI 8075 Shrink Tube (THT Inductor, 2-Leads, Body 7,8  mm)
pins: 1, 2

## WE-TI 8075, 7447721047
designator L?, comment 4700 µH
Radial Leaded Wire Wound Inductor WE-TI, L=4700 µH; partNo: 7447721047; Manufacturer: Würth Elektronik eiSos GmbH; Inductance: 4700 µH; ComponentLink1Description: Manufacturer; ComponentLink1URL: http://www.we-online.de; Created by: Christin Zierenner; Created Date: July 2009; ComponentLink2Description: Datasheet; ComponentLink2URL: http://www.we-online.de/katalog/media/pdf/7447721047.pdf
footprint WE-TI 8075 (THT Inductor, 2-Leads, Body 7,8  mm)
pins: 1, 2


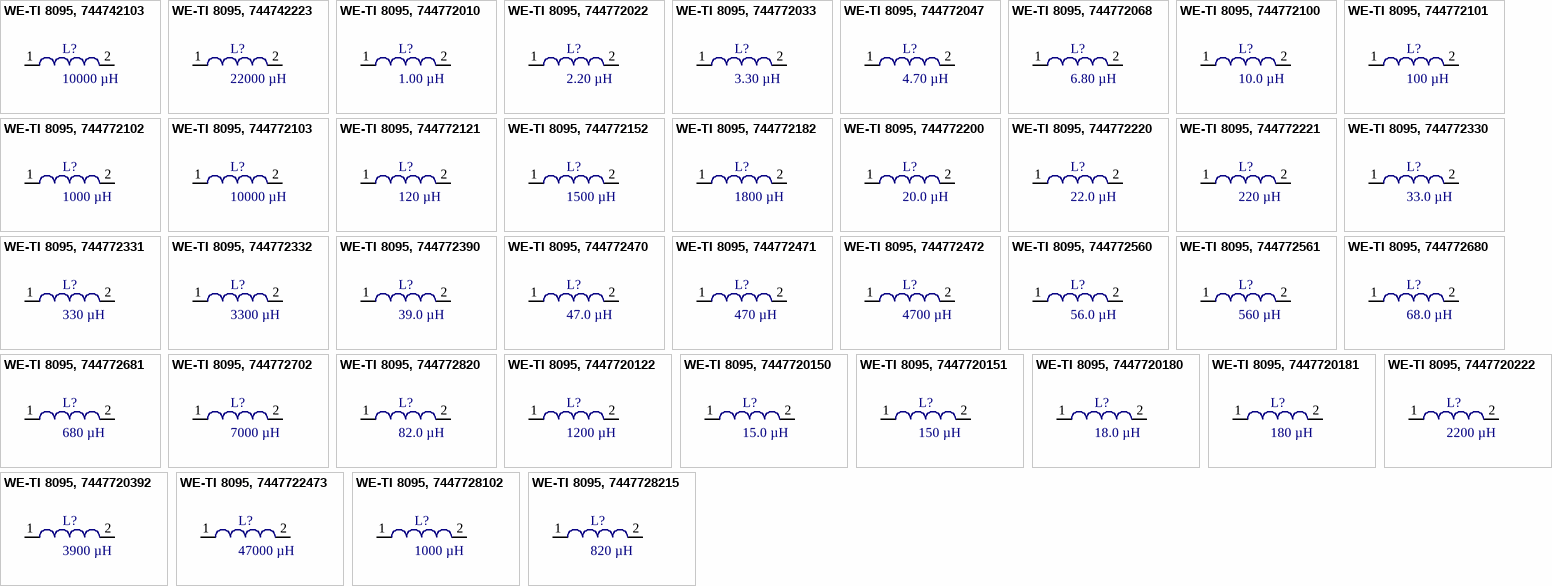
[diagram p7: symbols WE-TI 8095, 744742103 to WE-TI 8095, 7447728215]

## WE-TI 8095, 744742103
designator L?, comment 10000 µH
Radial Leaded Wire Wound Inductor WE-TI, L=10000 µH; partNo: 744742103; Manufacturer: Würth Elektronik eiSos GmbH; Inductance: 10000 µH; ComponentLink1Description: Manufacturer; ComponentLink1URL: http://www.we-online.de; Created by: Christin Otto; Created Date: November 2ß13; ComponentLink2Description: Datasheet; ComponentLink2URL: http://www.we-online.de/katalog/media/pdf/744742103.pdf
footprint WE-TI 8095 shrink tube (THT Inductor, 2-Leads, Body 8,0  mm)
pins: 1, 2

## WE-TI 8095, 744742223
designator L?, comment 22000 µH
Radial Leaded Wire Wound Inductor WE-TI, L=22000 µH; partNo: 744742223; Manufacturer: Würth Elektronik eiSos GmbH; Inductance: 22000 µH; ComponentLink1Description: Manufacturer; ComponentLink1URL: http://www.we-online.de; Created by: Christin Zierenner; Created Date: March 2010; ComponentLink2Description: Datasheet; ComponentLink2URL: http://www.we-online.de/katalog/media/pdf/744742223.pdf
footprint WE-TI 8095 shrink tube (THT Inductor, 2-Leads, Body 8,0  mm)
pins: 1, 2

## WE-TI 8095, 744772010
designator L?, comment 1.00 µH
Radial Leaded Wire Wound Inductor WE-TI, L=1.00 µH; partNo: 744772010; Manufacturer: Würth Elektronik eiSos GmbH; Inductance: 1.00 µH; ComponentLink1Description: Manufacturer; ComponentLink1URL: http://www.we-online.de; Created by: Christin Zierenner; Created Date: July 2009; ComponentLink2Description: Datasheet; ComponentLink2URL: http://www.we-online.de/katalog/media/pdf/744772010.pdf
footprint WE-TI 8095 (THT Inductor, 2-Leads, Body 7,8  mm)
pins: 1, 2

## WE-TI 8095, 744772022
designator L?, comment 2.20 µH
Radial Leaded Wire Wound Inductor WE-TI, L=2.20 µH; partNo: 744772022; Manufacturer: Würth Elektronik eiSos GmbH; Inductance: 2.20 µH; ComponentLink1Description: Manufacturer; ComponentLink1URL: http://www.we-online.de; Created by: Christin Zierenner; Created Date: July 2009; ComponentLink2Description: Datasheet; ComponentLink2URL: http://www.we-online.de/katalog/media/pdf/744772022.pdf
footprint WE-TI 8095 (THT Inductor, 2-Leads, Body 7,8  mm)
pins: 1, 2

## WE-TI 8095, 744772033
designator L?, comment 3.30 µH
Radial Leaded Wire Wound Inductor WE-TI, L=3.30 µH; partNo: 744772033; Manufacturer: Würth Elektronik eiSos GmbH; Inductance: 3.30 µH; ComponentLink1Description: Manufacturer; ComponentLink1URL: http://www.we-online.de; Created by: Christin Zierenner; Created Date: July 2009; ComponentLink2Description: Datasheet; ComponentLink2URL: http://www.we-online.de/katalog/media/pdf/744772033.pdf
footprint WE-TI 8095 (THT Inductor, 2-Leads, Body 7,8  mm)
pins: 1, 2

## WE-TI 8095, 744772047
designator L?, comment 4.70 µH
Radial Leaded Wire Wound Inductor WE-TI, L=4.70 µH; partNo: 744772047; Manufacturer: Würth Elektronik eiSos GmbH; Inductance: 4.70 µH; ComponentLink1Description: Manufacturer; ComponentLink1URL: http://www.we-online.de; Created by: Christin Zierenner; Created Date: July 2009; ComponentLink2Description: Datasheet; ComponentLink2URL: http://www.we-online.de/katalog/media/pdf/744772047.pdf
footprint WE-TI 8095 (THT Inductor, 2-Leads, Body 7,8  mm)
pins: 1, 2

## WE-TI 8095, 744772068
designator L?, comment 6.80 µH
Radial Leaded Wire Wound Inductor WE-TI, L=6.80 µH; partNo: 744772068; Manufacturer: Würth Elektronik eiSos GmbH; Inductance: 6.80 µH; ComponentLink1Description: Manufacturer; ComponentLink1URL: http://www.we-online.de; Created by: Christin Zierenner; Created Date: July 2009; ComponentLink2Description: Datasheet; ComponentLink2URL: http://www.we-online.de/katalog/media/pdf/744772068.pdf
footprint WE-TI 8095 (THT Inductor, 2-Leads, Body 7,8  mm)
pins: 1, 2

## WE-TI 8095, 744772100
designator L?, comment 10.0 µH
Radial Leaded Wire Wound Inductor WE-TI, L=10.0 µH; partNo: 744772100; Manufacturer: Würth Elektronik eiSos GmbH; Inductance: 10.0 µH; ComponentLink1Description: Manufacturer; ComponentLink1URL: http://www.we-online.de; Created by: Christin Zierenner; Created Date: July 2009; ComponentLink2Description: Datasheet; ComponentLink2URL: http://www.we-online.de/katalog/media/pdf/744772100.pdf
footprint WE-TI 8095 (THT Inductor, 2-Leads, Body 7,8  mm)
pins: 1, 2

## WE-TI 8095, 744772101
designator L?, comment 100 µH
Radial Leaded Wire Wound Inductor WE-TI, L=100 µH; partNo: 744772101; Manufacturer: Würth Elektronik eiSos GmbH; Inductance: 100 µH; ComponentLink1Description: Manufacturer; ComponentLink1URL: http://www.we-online.de; Created by: Christin Zierenner; Created Date: July 2009; ComponentLink2Description: Datasheet; ComponentLink2URL: http://www.we-online.de/katalog/media/pdf/744772101.pdf
footprint Model Name (Footprint not found)
footprint WE-TI 8095 (THT Inductor, 2-Leads, Body 7,8  mm)
pins: 1, 2

## WE-TI 8095, 744772102
designator L?, comment 1000 µH
Radial Leaded Wire Wound Inductor WE-TI, L=1000 µH; partNo: 744772102; Manufacturer: Würth Elektronik eiSos GmbH; Inductance: 1000 µH; ComponentLink1Description: Manufacturer; ComponentLink1URL: http://www.we-online.de; Created by: Christin Zierenner; Created Date: July 2009; ComponentLink2Description: Datasheet; ComponentLink2URL: http://www.we-online.de/katalog/media/pdf/744772102.pdf
footprint WE-TI 8095 (THT Inductor, 2-Leads, Body 7,8  mm)
pins: 1, 2

## WE-TI 8095, 744772103
designator L?, comment 10000 µH
Radial Leaded Wire Wound Inductor WE-TI, L=10000 µH; partNo: 744772103; Manufacturer: Würth Elektronik eiSos GmbH; Inductance: 10000 µH; ComponentLink1Description: Manufacturer; ComponentLink1URL: http://www.we-online.de; Created by: Christin Zierenner; Created Date: July 2009; ComponentLink2Description: Datasheet; ComponentLink2URL: http://www.we-online.de/katalog/media/pdf/744772103.pdf
footprint WE-TI 8095 (THT Inductor, 2-Leads, Body 7,8  mm)
pins: 1, 2

## WE-TI 8095, 744772121
designator L?, comment 120 µH
Radial Leaded Wire Wound Inductor WE-TI, L=120 µH; partNo: 744772121; Manufacturer: Würth Elektronik eiSos GmbH; Inductance: 120 µH; ComponentLink1Description: Manufacturer; ComponentLink1URL: http://www.we-online.de; Created by: Christin Zierenner; Created Date: July 2009; ComponentLink2Description: Datasheet; ComponentLink2URL: http://www.we-online.de/katalog/media/pdf/744772121.pdf
footprint WE-TI 8095 (THT Inductor, 2-Leads, Body 7,8  mm)
pins: 1, 2

## WE-TI 8095, 744772152
designator L?, comment 1500 µH
Radial Leaded Wire Wound Inductor WE-TI, L=1500 µH; partNo: 744772152; Manufacturer: Würth Elektronik eiSos GmbH; Inductance: 1500 µH; ComponentLink1Description: Manufacturer; ComponentLink1URL: http://www.we-online.de; Created by: Christin Otto; Created Date: November 2013; ComponentLink2Description: Datasheet; ComponentLink2URL: http://www.we-online.de/katalog/media/pdf/744772152.pdf
footprint WE-TI 8095 (THT Inductor, 2-Leads, Body 7,8  mm)
pins: 1, 2

## WE-TI 8095, 744772182
designator L?, comment 1800 µH
Radial Leaded Wire Wound Inductor WE-TI, L=1800 µH; partNo: 744772182; Manufacturer: Würth Elektronik eiSos GmbH; Inductance: 1800 µH; ComponentLink1Description: Manufacturer; ComponentLink1URL: http://www.we-online.de; Created by: Christin Zierenner; Created Date: July 2009; ComponentLink2Description: Datasheet; ComponentLink2URL: http://www.we-online.de/katalog/media/pdf/744772182.pdf
footprint WE-TI 8095 (THT Inductor, 2-Leads, Body 7,8  mm)
pins: 1, 2

## WE-TI 8095, 744772200
designator L?, comment 20.0 µH
Radial Leaded Wire Wound Inductor WE-TI, L=20.0 µH; partNo: 744772200; Manufacturer: Würth Elektronik eiSos GmbH; Inductance: 20.0 µH; ComponentLink1Description: Manufacturer; ComponentLink1URL: http://www.we-online.de; Created by: Christin Otto; Created Date: November 2013; ComponentLink2Description: Datasheet; ComponentLink2URL: http://www.we-online.de/katalog/media/pdf/744772200.pdf
footprint WE-TI 8095 (THT Inductor, 2-Leads, Body 7,8  mm)
pins: 1, 2

## WE-TI 8095, 744772220
designator L?, comment 22.0 µH
Radial Leaded Wire Wound Inductor WE-TI, L=22.0 µH; partNo: 744772220; Manufacturer: Würth Elektronik eiSos GmbH; Inductance: 22.0 µH; ComponentLink1Description: Manufacturer; ComponentLink1URL: http://www.we-online.de; Created by: Christin Zierenner; Created Date: July 2009; ComponentLink2Description: Datasheet; ComponentLink2URL: http://www.we-online.de/katalog/media/pdf/744772220.pdf
footprint WE-TI 8095 (THT Inductor, 2-Leads, Body 7,8  mm)
pins: 1, 2

## WE-TI 8095, 744772221
designator L?, comment 220 µH
Radial Leaded Wire Wound Inductor WE-TI, L=220 µH; partNo: 744772221; Manufacturer: Würth Elektronik eiSos GmbH; Inductance: 220 µH; ComponentLink1Description: Manufacturer; ComponentLink1URL: http://www.we-online.de; Created by: Christin Zierenner; Created Date: July 2009; ComponentLink2Description: Datasheet; ComponentLink2URL: http://www.we-online.de/katalog/media/pdf/744772221.pdf
footprint WE-TI 8095 (THT Inductor, 2-Leads, Body 7,8  mm)
pins: 1, 2

## WE-TI 8095, 744772330
designator L?, comment 33.0 µH
Radial Leaded Wire Wound Inductor WE-TI, L=33.0 µH; partNo: 744772330; Manufacturer: Würth Elektronik eiSos GmbH; Inductance: 33.0 µH; ComponentLink1Description: Manufacturer; ComponentLink1URL: http://www.we-online.de; Created by: Christin Zierenner; Created Date: July 2009; ComponentLink2Description: Datasheet; ComponentLink2URL: http://www.we-online.de/katalog/media/pdf/744772330.pdf
footprint WE-TI 8095 (THT Inductor, 2-Leads, Body 7,8  mm)
pins: 1, 2

## WE-TI 8095, 744772331
designator L?, comment 330 µH
Radial Leaded Wire Wound Inductor WE-TI, L=330 µH; partNo: 744772331; Manufacturer: Würth Elektronik eiSos GmbH; Inductance: 330 µH; ComponentLink1Description: Manufacturer; ComponentLink1URL: http://www.we-online.de; Created by: Christin Otto; Created Date: November 2013; ComponentLink2Description: Datasheet; ComponentLink2URL: http://www.we-online.de/katalog/media/pdf/744772331.pdf
footprint WE-TI 8095 (THT Inductor, 2-Leads, Body 7,8  mm)
pins: 1, 2

## WE-TI 8095, 744772332
designator L?, comment 3300 µH
Radial Leaded Wire Wound Inductor WE-TI, L=3300 µH; partNo: 744772332; Manufacturer: Würth Elektronik eiSos GmbH; Inductance: 3300 µH; ComponentLink1Description: Manufacturer; ComponentLink1URL: http://www.we-online.de; Created by: Christin Otto; Created Date: November 2013; ComponentLink2Description: Datasheet; ComponentLink2URL: http://www.we-online.de/katalog/media/pdf/744772332.pdf
footprint WE-TI 8095 (THT Inductor, 2-Leads, Body 7,8  mm)
pins: 1, 2

## WE-TI 8095, 744772390
designator L?, comment 39.0 µH
Radial Leaded Wire Wound Inductor WE-TI, L=39.0 µH; partNo: 744772390; Manufacturer: Würth Elektronik eiSos GmbH; Inductance: 39.0 µH; ComponentLink1Description: Manufacturer; ComponentLink1URL: http://www.we-online.de; Created by: Christin Zierenner; Created Date: March 2010; ComponentLink2Description: Datasheet; ComponentLink2URL: http://www.we-online.de/katalog/media/pdf/744772390.pdf
footprint WE-TI 8095 (THT Inductor, 2-Leads, Body 7,8  mm)
pins: 1, 2